# Altium footprint library g-PIN_mm-CIRCLE.PcbLib: 1 footprints
Each footprint in its own frame and in the unit in brackets; x right, y up, seen from the top. Pads: shape width x height; smd on the part's side, far side on the other; paste and mask are expansions set on the pad; w line width, h text height; cw(c..) or ccw(c..) is an arc to the next point about the centre after c.
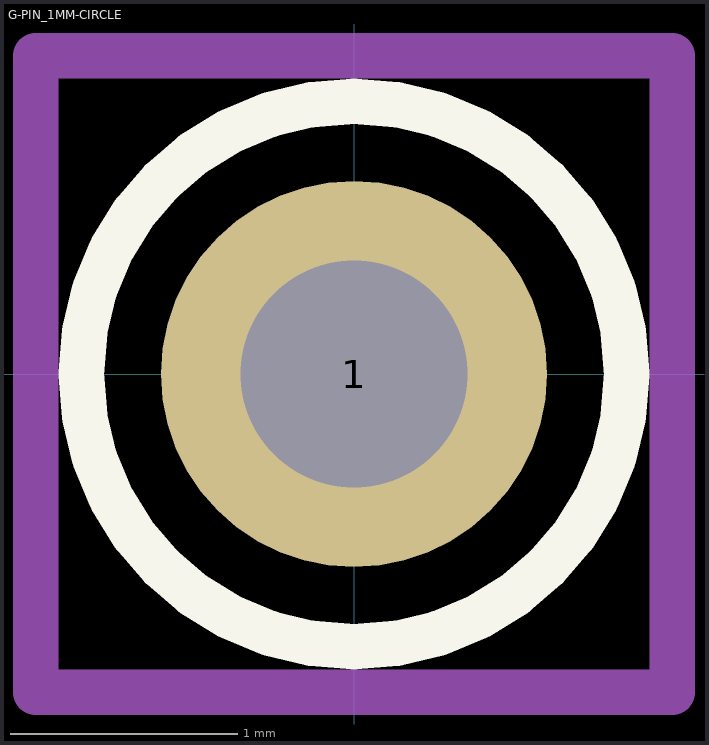
[diagram p0: the footprint, top view; thin cyan lines are the x and y axes]

## G-PIN_1MM-CIRCLE [mm]
height 4.5
pads (1):
  round 1.7 hole 1: 1(0,0)
Top Overlay:
  circle w0.2: c0,0 r1.2
Mechanical 13:
  circle w0.2: c0,0 r0.5
Mechanical 15:
  lines w0.2: -0.4,0 0.4,0 ; 0,-0.4 0,0.4 ; -1.4,-1.4 -1.4,1.4 1.4,1.4 1.4,-1.4 -1.4,-1.4
3D body: height 4.5, standoff 0, extent -0.496,-0.499 0.5,0.499